# Altium schematic symbol library RFID_RC632.SchLib: 20 symbols
Pins are listed as number, name and electrical type; pins without a type are passive.

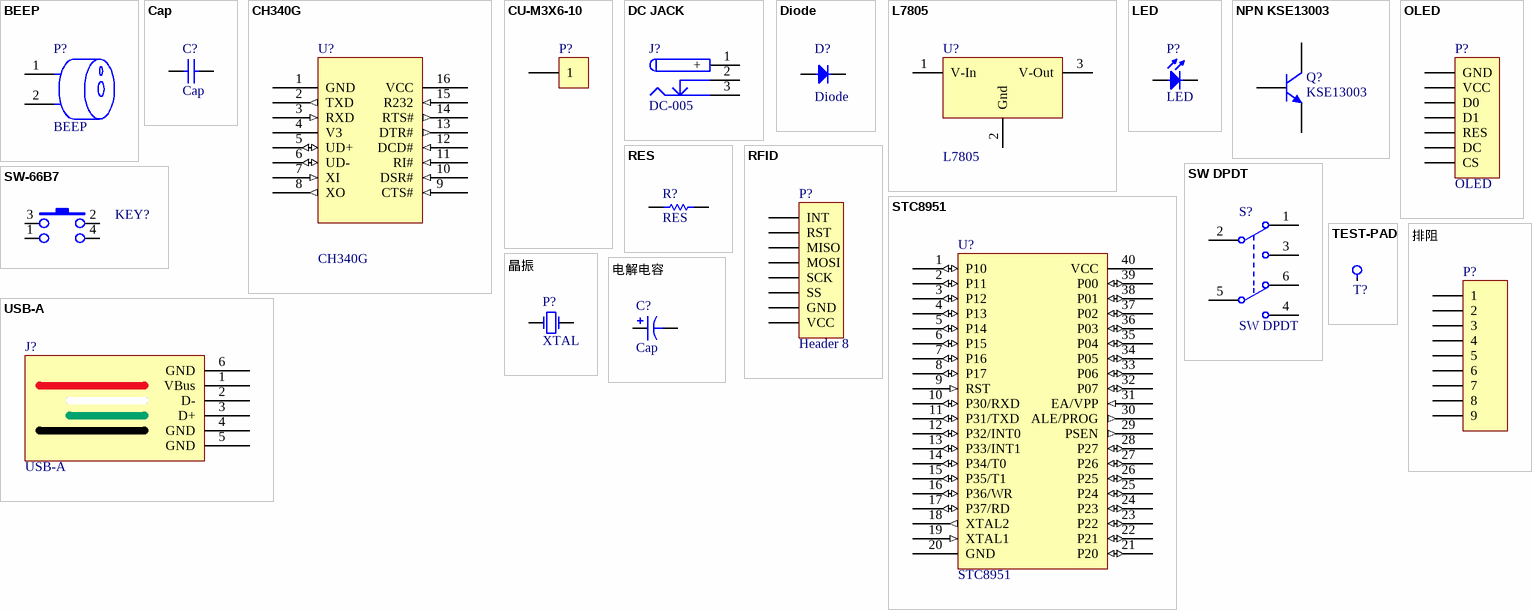
[diagram p0: symbols BEEP to 电解电容]

## BEEP
designator P?
圆形蜂鸣器
footprint BEEP (7.62脚距，12x9.5蜂鸣器)
pins: 1 +, 2 -

## Cap
designator C?
普通电容
footprint 普通电容
pins: 1, 2

## CH340G
designator U?
USB to TTL Serial / UART
footprint CH340G (USB to TTL Serial / UART)
pins: 1 GND (power), 2 TXD (out), 3 RXD (in), 4 V3 (power), 5 UD+ (io), 6 UD- (io), 7 XI (in), 8 XO (out), 9 CTS# (in), 10 DSR# (in), 11 RI# (in), 12 DCD# (in), 13 DTR# (out), 14 RTS# (out), 15 R232 (in), 16 VCC (power)

## CU-M3X6-10
designator P?
10mm长M3六角铜柱; LatestRevisionDate: 17-Jul-2002; LatestRevisionNote: Re-released for DXP Platform.; Publisher: Altium Limited
footprint CU-M3X6-10 (10mm长M3六角铜柱)
pins: 1

## DC JACK
designator J?, comment DC-005
DC 电源座; Manufacturer: Kycon; Fitted: True
footprint DC JACK (DC Power Jack, 2.5mm, KLD Series, PCB Mount)
pins: 1 + (power), 2 (power), 3 - (power)

## Diode
designator D?
二极管; Published: 8-Jun-2000; LatestRevisionDate: 17-Jul-2002; LatestRevisionNote: Re-released for DXP Platform.; PackageDocument: Sep-1996; PackageReference: SMC; Publisher: Altium Limited; Code_JEDEC: DO-214-AB
footprint Diode (二极管封装（针式）)
pins: 1 A, 2 K

## L7805
designator U?
1.5A Vin:40V(max) Vout:5-24V -55 ~ 150°C LDO稳压器
footprint L7805
pins: 1 V-In, 2 Gnd, 3 V-Out

## LED
designator P?
LED灯
footprint LED
pins: 1 A, 2 K

## NPN KSE13003
designator Q?, comment KSE13003
NPN 三极管; Published: 8-Jun-2000; LatestRevisionDate: 17-Jul-2002; LatestRevisionNote: Re-released for DXP Platform.; PackageReference: TO-226; Publisher: Altium Limited; Code_JEDEC: TO-226-AA
footprint NPN KSE13003 (三极管)
pins: 1 E, 2 C, 3 B

## OLED
designator P?
OLED 0.96寸 SPI; LatestRevisionDate: 17-Jul-2002; LatestRevisionNote: Re-released for DXP Platform.; Publisher: Altium Limited
footprint OLED (Connector; Header; 7 Position)
pins: 1 GND, 2 VCC, 3 D0, 4 D1, 5 RES, 6 DC, 7 CS

## RES
designator R?
电阻
footprint 电阻
pins: 1, 2

## RFID
designator P?, comment Header 8
Header, 8-Pin; LatestRevisionDate: 17-Jul-2002; LatestRevisionNote: Re-released for DXP Platform.; Publisher: Altium Limited
footprint RFID (Connector; Header; 8 Position)
pins: 1 INT, 2 RST, 3 MISO, 4 MOSI, 5 SCK, 6 SS, 7 GND, 8 VCC

## STC8951
designator U?
51单片机
footprint STC8951
pins: 1 P10 (io), 2 P11 (io), 3 P12 (io), 4 P13 (io), 5 P14 (io), 6 P15 (io), 7 P16 (io), 8 P17 (io), 9 RST (in), 10 P30/RXD (io), 11 P31/TXD (io), 12 P32/INT0 (io), 13 P33/INT1 (io), 14 P34/T0 (io), 15 P35/T1 (io), 16 P36/WR (io), 17 P37/RD (io), 18 XTAL2 (out), 19 XTAL1 (in), 20 GND (power), 21 P20 (io), 22 P21 (io), 23 P22 (io), 24 P23 (io), 25 P24 (io), 26 P25 (io), 27 P26 (io), 28 P27 (io), 29 PSEN (out), 30 ALE/PROG (out), 31 EA/VPP (in), 32 P07 (io), 33 P06 (io), 34 P05 (io), 35 P04 (io), 36 P03 (io), 37 P02 (io), 38 P01 (io), 39 P00 (io), 40 VCC (power)

## SW DPDT
designator S?
自锁开关 （双刀双掷）; Published: 24-Mar-1999; LatestRevisionDate: 17-Jul-2002; LatestRevisionNote: Re-released for DXP Platform.; PackageReference: SOT23-6; Publisher: Altium Limited
footprint SW DPDT (自锁开关)
pins: 1 NC1, 2 COMMON1, 3 NO1, 4 NO2, 5 COMMON2, 6 NC2

## SW-66B7
designator KEY?  (value not drawn)
footprint SW-66 (6×6轻触开关)
pins: 1, 2, 3, 4

## TEST-PAD
designator T?  (value not drawn)
测试点
footprint Test-PAD (测试焊盘)
pins: 1

## USB-A
designator J?
footprint USB-A
pins: 1 VBus, 2 D-, 3 D+, 4 GND, 5 GND, 6 GND

## 排阻
designator P?
Header, 9-Pin; LatestRevisionDate: 17-Jul-2002; LatestRevisionNote: Re-released for DXP Platform.; Publisher: Altium Limited
footprint 排阻
pins: 1, 2, 3, 4, 5, 6, 7, 8, 9

## 晶振
designator P?, comment XTAL
晶振
footprint 晶振
pins: 1 OSC1, 2 OSC2

## 电解电容
designator C?, comment Cap
电解电容
footprint 电解电容 (Footprint not found)
pins: 1, 2